# Altium schematic symbol library ARS_Schematic_Library.SchLib: 5 symbols
Pins are listed as number, name and electrical type; pins without a type are passive.

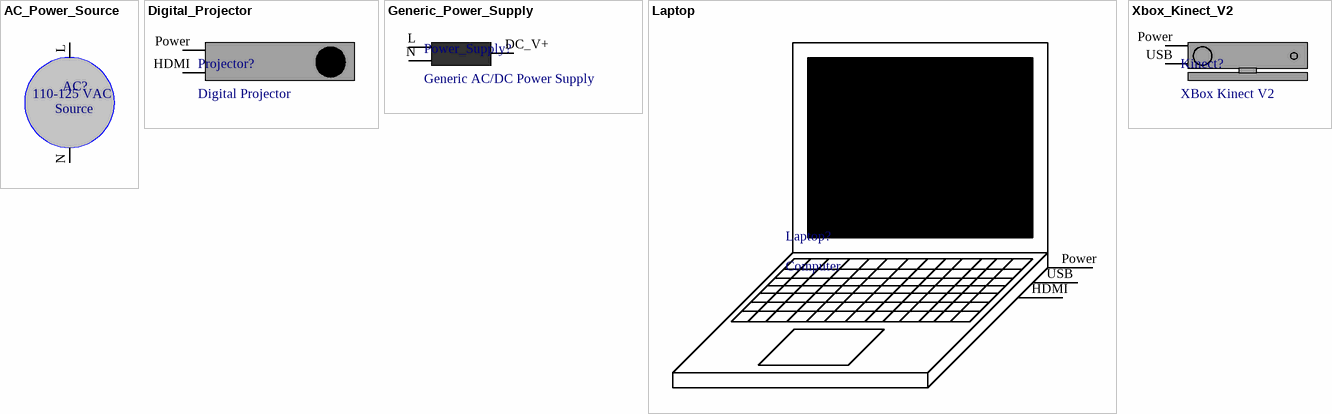
[diagram p0: symbols AC_Power_Source to Xbox_Kinect_V2]

## AC_Power_Source
designator AC?, comment 110-125 VAC  (value not drawn)
110-125 VAC SOURCE
pins: L, N
text: Source

## Digital_Projector
designator Projector?, comment Digital Projector
BenQ Short Throw Digital Projector
pins: HDMI, Power

## Generic_Power_Supply
designator Power_Supply?, comment Generic AC/DC Power Supply
pins: DC_V+, L, N

## Laptop
designator Laptop?, comment Computer
Laptop Computer
pins: HDMI, Power, USB

## Xbox_Kinect_V2
designator Kinect?, comment XBox Kinect V2
Microsoft XBox Kinect V2
pins: Power, USB